# Altium footprint library PDM-CARD-PCBLib-V00.PcbLib: 7 footprints
Each footprint in its own frame and in the unit in brackets; x right, y up, seen from the top. Pads: shape width x height; smd on the part's side, far side on the other; paste and mask are expansions set on the pad; w line width, h text height; cw(c..) or ccw(c..) is an arc to the next point about the centre after c.
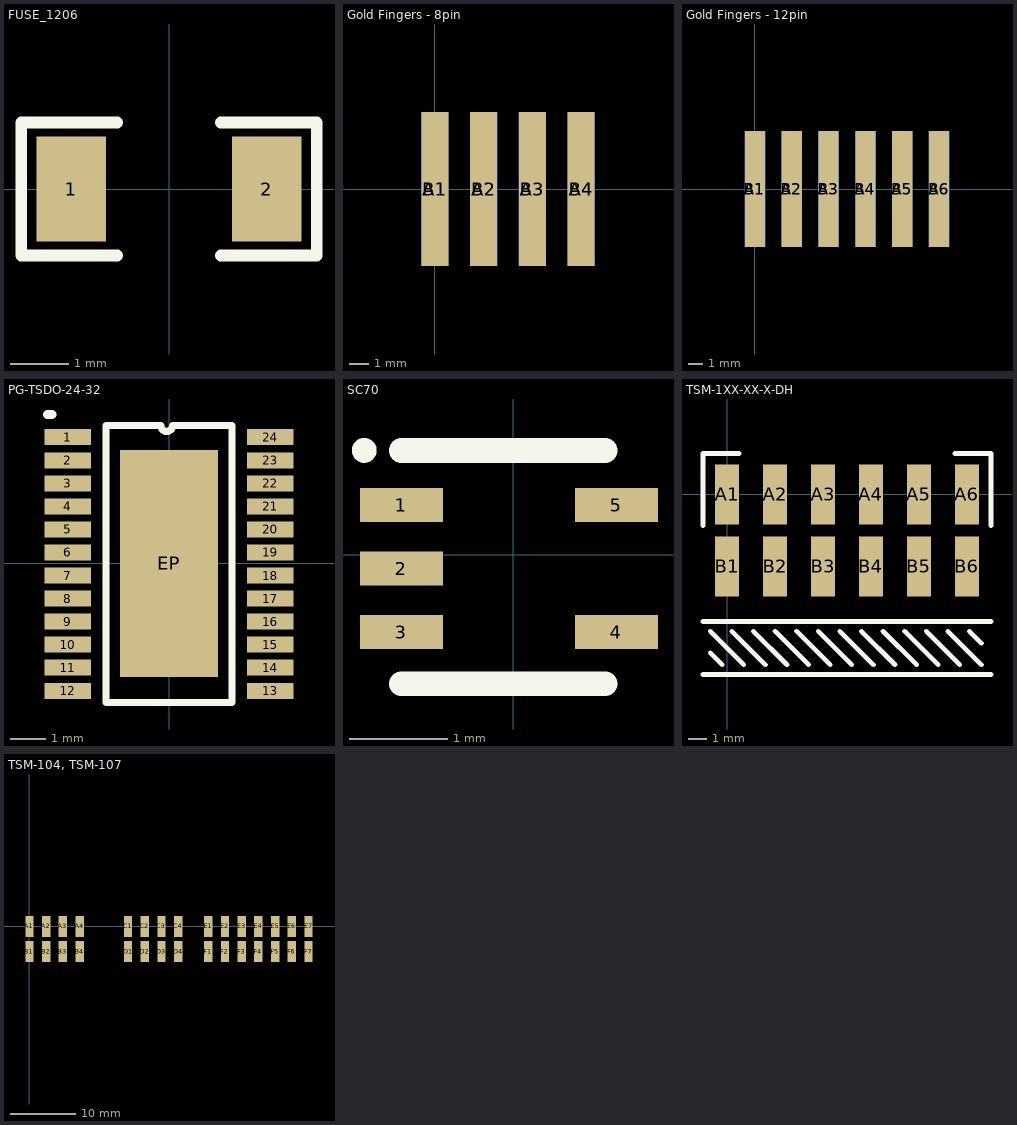
[diagram p0: the footprints below, top view; thin cyan lines are the x and y axes]

## FUSE_1206 [mil]
pads (2):
  rect 47x71 smd: 1(-66.08,0) 2(66.08,0)
Top Overlay:
  lines w8: -35,-45 -100,-45 -100,45 -35,45 ; 35,-45 100,-45 100,45 35,45
3D body "rsmd-1206_l3-2_w1-6_h0-6.stp": height 23.62, standoff 0, extent -62.99,-31.49 63,31.5

## Gold Fingers - 8pin [mm]
pads (8):
  rect 1.4x8 smd: A1(0,0)
  rect 1.4x8 smd paste+0 mask+0.102: A2(2.54,0) A3(5.08,0) A4(7.62,0)
  rect 1.4x8 smd far side: B1(0,0)
  rect 1.4x8 smd far side paste+0 mask+0.102: B2(2.54,0) B3(5.08,0) B4(7.62,0)

## Gold Fingers - 12pin [mm]
pads (12):
  rect 1.4x8 smd: A1(0,0)
  rect 1.4x8 smd paste+0 mask+0.102: A2(2.54,0) A3(5.08,0) A4(7.62,0) A5(10.16,0) A6(12.7,0)
  rect 1.4x8 smd far side: B1(0,0)
  rect 1.4x8 smd far side paste+0 mask+0.102: B2(2.54,0) B3(5.08,0) B4(7.62,0) B5(10.16,0) B6(12.7,0)

## PG-TSDO-24-32 [mm]
pads (25):
  rect 1.31x0.45 smd: 1(-2.855,3.556) 2(-2.855,2.906) 3(-2.855,2.256) 4(-2.855,1.606) 5(-2.855,0.956) 6(-2.855,0.306) 7(-2.855,-0.344) 8(-2.855,-0.994) 9(-2.855,-1.644) 10(-2.855,-2.294) 11(-2.855,-2.944) 12(-2.855,-3.594) 13(2.855,-3.594) 14(2.855,-2.944) 15(2.855,-2.294) 16(2.855,-1.644) 17(2.855,-0.994) 18(2.855,-0.344) 19(2.855,0.306) 20(2.855,0.956) 21(2.855,1.606) 22(2.855,2.256) 23(2.855,2.906) 24(2.855,3.556)
  rect 2.77x6.4 smd: EP(0,0)
Top Overlay:
  lines w0.2: -1.778,-3.919 1.778,-3.919 1.778,3.881 0.096,3.881 cw(c-0.066,3.881) -0.229,3.881 -1.778,3.881 -1.778,-3.919
  lines w0.254: -3.429,4.191 -3.302,4.191
3D body "Infineon-STP_PG-TSDSO-24-21-P-v01_00-EN.stp": height 1.01, standoff 0, extent -3,-4.318 3,4.332

## SC70 [mm] "SC70, 5-leads"
pads (5):
  rect 0.85x0.35 smd: 1(-1.143,0.508) 2(-1.143,-0.142) 3(-1.143,-0.792) 4(1.057,-0.792) 5(1.057,0.508)
Top Overlay:
  circle w0.127: c-1.524,1.067 r0.064
  lines w0.254: -1.143,-1.321 0.94,-1.321 ; -1.143,1.067 0.94,1.067
3D body "sc705_model.STEP": height 0.9, standoff -0.05, extent -1.142,-1.133 0.958,0.867

## TSM-1XX-XX-X-DH [mm]
pads (12):
  rect 1.27x3.18 smd: A1(0,0) A2(2.54,0) A3(5.08,0) A4(7.62,0) A5(10.16,0) A6(12.7,0) B1(0,-3.81) B2(2.54,-3.81) B3(5.08,-3.81) B4(7.62,-3.81) B5(10.16,-3.81) B6(12.7,-3.81)
Top Overlay:
  lines w0.254: -1.27,-9.525 13.97,-9.525 ; -1.27,-6.731 13.97,-6.731 ; -1.27,-1.651 -1.27,2.159 0.635,2.159 ; -0.889,-8.382 -0.254,-9.017 ; -0.889,-7.239 0.889,-9.017 ; 0.254,-7.239 2.032,-9.017 ; 1.397,-7.239 3.175,-9.017 ; 2.54,-7.239 4.318,-9.017 ; 3.683,-7.239 5.461,-9.017 ; 4.826,-7.239 6.604,-9.017 ; 5.969,-7.239 7.747,-9.017 ; 7.112,-7.239 8.89,-9.017 ; 8.255,-7.239 10.033,-9.017 ; 9.398,-7.239 11.176,-9.017 ; 10.541,-7.239 12.319,-9.017 ; 11.684,-7.239 13.462,-9.017 ; 12.065,2.159 13.97,2.159 13.97,-1.651 ; 12.827,-7.239 13.462,-7.874
3D body "TSM-106-01-T-DH.stp": height 6.07, standoff -0.02, extent -1.27,-15.24 13.97,1.016

## TSM-104, TSM-107 [mm]
pads (30):
  rect 1.27x3.18 smd: A1(0,0) A2(2.54,0) A3(5.08,0) A4(7.62,0) B1(0,-3.81) B2(2.54,-3.81) B3(5.08,-3.81) B4(7.62,-3.81) C1(14.986,0) C2(17.526,0) C3(20.066,0) C4(22.606,0) D1(14.986,-3.81) D2(17.526,-3.81) D3(20.066,-3.81) D4(22.606,-3.81) E1(27.178,0) E2(29.718,0) E3(32.258,0) E4(34.798,0) E5(37.338,0) E6(39.878,0) E7(42.418,0) F1(27.178,-3.81) F2(29.718,-3.81) F3(32.258,-3.81) F4(34.798,-3.81) F5(37.338,-3.81) F6(39.878,-3.81) F7(42.418,-3.81)
3D body "TSM-104-01-L-DH.stp": height 6.07, standoff -0.02, extent -1.27,-15.113 8.89,1.143
3D body "TSM-104-01-L-DH.stp": height 6.07, standoff -0.02, extent 13.716,-15.113 23.876,1.143
3D body "TSM-107-01-L-DH.stp": height 6.07, standoff -0.02, extent 25.908,-15.113 43.688,1.143